# Altium footprint library MCED_PcbLib.PcbLib: 16 footprints
Each footprint in its own frame and in the unit in brackets; x right, y up, seen from the top. Pads: shape width x height; smd on the part's side, far side on the other; paste and mask are expansions set on the pad; w line width, h text height; cw(c..) or ccw(c..) is an arc to the next point about the centre after c.
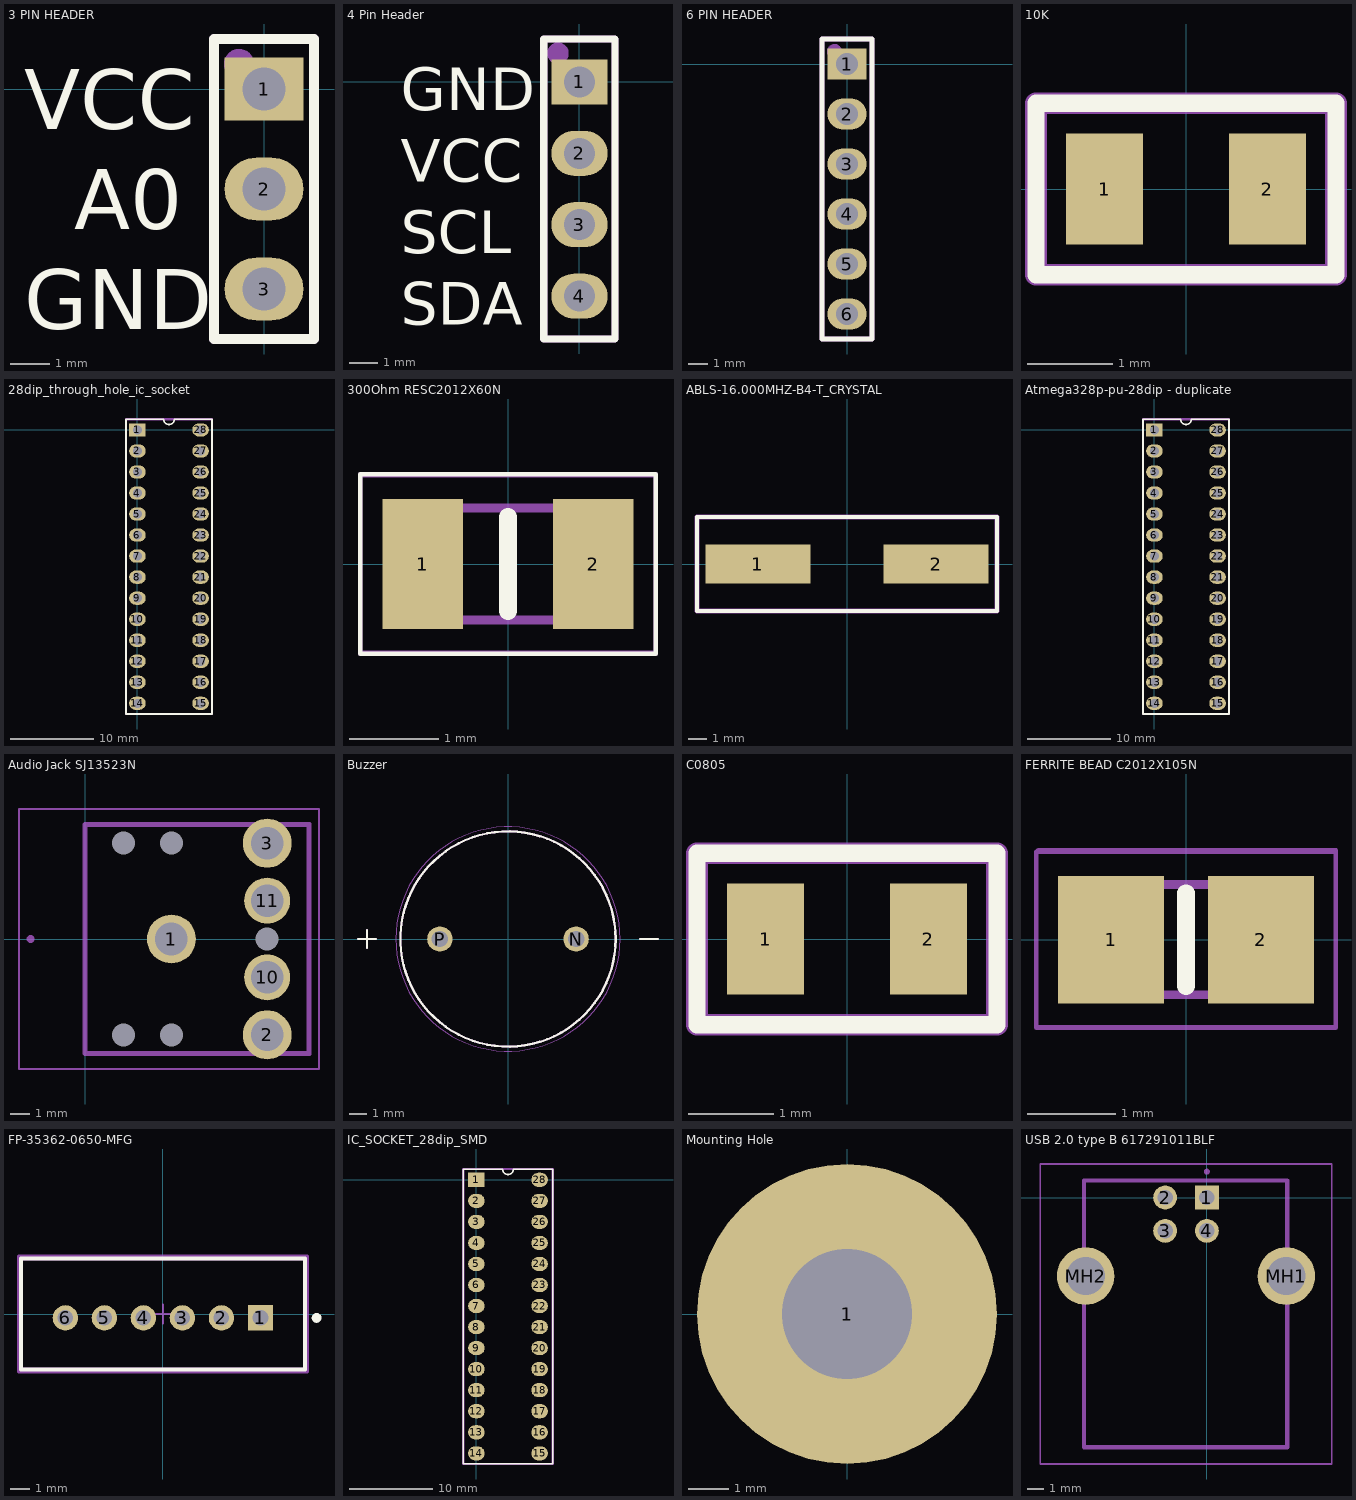
[diagram p0: the footprints below, top view; thin cyan lines are the x and y axes]

## 3 PIN HEADER [mm]
pads (3):
  rect 2x1.6 hole 1.1: 1(0,0)
  oval 2x1.6 hole 1.1: 2(0,-2.54) 3(0,-5.08)
Top Overlay:
  lines w0.254: -1.27,-6.35 1.27,-6.35 1.27,1.27 0,1.27 -1.27,1.27 -1.27,-6.35
  text "VCC" at -6.096,-1.016 h1.52
  text "A0" at -4.826,-3.556 h1.52
  text "GND" at -6.096,-6.096 h1.52
Mechanical 29:
  circle w0.508: c-0.635,0.635 r0.127
  lines w0.254: -1.27,-6.35 -1.27,1.27 1.27,1.27 1.27,-6.35 -1.27,-6.35
  text ".Designator" at 0.508,-4.826 h1.52
3D body "929850-01-03-RA.stp": height 8.26, standoff -3.18, extent -1.27,-6.35 1.27,1.27

## 4 Pin Header [mm]
pads (4):
  rect 2x1.6 hole 1.1: 1(0,0)
  oval 2x1.6 hole 1.1: 2(0,-2.54) 3(0,-5.08) 4(0,-7.62)
Top Overlay:
  lines w0.254: -1.27,-9.144 1.27,-9.144 1.27,1.524 0,1.524 -1.27,1.524 -1.27,-9.144
  text "SDA" at -6.35,-8.636 h1.52
  text "SCL" at -6.35,-6.096 h1.52
  text "VCC" at -6.35,-3.556 h1.52
  text "GND" at -6.35,-1.016 h1.52
Mechanical 29:
  circle w0.508: c-0.762,1.016 r0.127
  lines w0.254: -1.27,-9.144 1.27,-9.144 1.27,1.524 -1.27,1.524 -1.27,-9.144
  text ".Designator" at 0.508,-7.366 h1.52
3D body "m20-7820446_asm.stp": height 8.51, standoff -2.99, extent -1.25,-9.036 1.25,1.524

## 6 PIN HEADER [mm]
pads (6):
  rect 2x1.6 hole 1.1: 1(0,0)
  oval 2x1.6 hole 1.1: 2(0,-2.54) 3(0,-5.08) 4(0,-7.62) 5(0,-10.16) 6(0,-12.7)
Top Overlay:
  lines w0.254: -1.27,-13.97 -1.27,1.27 0,1.27 1.27,1.27 1.27,-13.97 -1.27,-13.97
Mechanical 29:
  circle w0.508: c-0.635,0.635 r0.127
  lines w0.254: -1.27,-13.97 1.27,-13.97 1.27,1.27 -1.27,1.27 -1.27,-13.97
  text ".Designator" at 0.508,-11.938 h1.52
3D body "929850-01-06-RB.stp": height 8.26, standoff -3.43, extent -1.27,-13.97 1.27,1.27

## 10K [mm] "Resistor"
pads (2):
  rect 0.9x1.3 smd: 1(-0.95,0) 2(0.95,0)
Top Overlay:
  lines w0.2: -1.75,-1 1.75,-1 1.75,1 -1.75,1 -1.75,0 -1.75,-1
Mechanical 29:
  lines w0.254: -1.75,-1 1.75,-1 1.75,1 -1.75,1 -1.75,-1
  text ".Designator" at -0.95,-0.1 h0.6
3D body "MCU 0805.stp": height 0.45, standoff 0, extent -1,-0.625 1,0.625

## 28dip_through_hole_ic_socket [mm]
pads (28):
  rect 2x1.6 hole 1.1: 1(0,0)
  oval 2x1.6 hole 1.1: 2(0,-2.54) 3(0,-5.08) 4(0,-7.62) 5(0,-10.16) 6(0,-12.7) 7(0,-15.24) 8(0,-17.78) 9(0,-20.32) 10(0,-22.86) 11(0,-25.4) 12(0,-27.94) 13(0,-30.48) 14(0,-33.02) 15(7.62,-33.02) 16(7.62,-30.48) 17(7.62,-27.94) 18(7.62,-25.4) 19(7.62,-22.86) 20(7.62,-20.32) 21(7.62,-17.78) 22(7.62,-15.24) 23(7.62,-12.7) 24(7.62,-10.16) 25(7.62,-7.62) 26(7.62,-5.08) 27(7.62,-2.54) 28(7.62,0)
Top Overlay:
  lines w0.2: -1.39,-34.31 -1.39,1.29 3.175,1.29 ccw(c3.81,1.29) 4.445,1.29 9.01,1.29 9.01,-34.31 -1.39,-34.31
Mechanical 29:
  circle w0.5: c0,0 r0.2
  lines w0.254: -1.39,-34.31 -1.39,1.29 9.01,1.29 9.01,-34.31 -1.39,-34.31
  text ".Designator" at 4.91,-23.51 h3
3D body "User Library-28pin 0_3inch 2_54mm IC DIP Gold Socket.step": height 5.15, standoff -2.85, extent -1.27,-34.27 8.89,1.29

## 300Ohm RESC2012X60N [mm] "330 Ohm"
pads (2):
  rect 0.9x1.45 smd: 1(-0.95,0) 2(0.95,0)
Top Overlay:
  lines w0.051: -1.65,-1 1.65,-1 1.65,1 -1.65,1 -1.65,-1
  lines w0.2: 0,-0.525 0,0.525
Mechanical 15:
  lines w0.1: -1,-0.625 1,-0.625 1,0.625 -1,0.625 -1,-0.625
Mechanical 20:
  lines w0.05: -1.65,-1 1.65,-1 1.65,1 -1.65,1 -1.65,-1
Mechanical 29:
  lines w0.051: -1.651,-0.991 -1.651,0.991 1.651,0.991 1.651,-0.991 -1.651,-0.991
  text ".Designator" at -0.559,0.178 h0.76
3D body "CRCW0805330RFKEAC.stp": height 5.8, standoff -4.65, extent -10,-3.376 10,3.376

## ABLS-16.000MHZ-B4-T_CRYSTAL [mm]
pads (2):
  rect 5.6x2.1 smd: 1(-4.75,0) 2(4.75,0)
Top Overlay:
  lines w0.2: -8,-2.5 -8,0 -8,2.5 8,2.5 8,-2.5 -8,-2.5
Mechanical 29:
  lines w0.254: -8,-2.5 8,-2.5 8,2.5 -8,2.5 -8,-2.5
  text ".Designator" at -0.246,-0.246 h3
3D body "User Library-Crystal HC49_US-SM.step": height 4.31, standoff 0.01, extent -6.4,-2.415 6.4,2.415

## Atmega328p-pu-28dip - duplicate [mm]
pads (28):
  rect 2x1.6 hole 1.1: 1(0,0)
  oval 2x1.6 hole 1.1: 2(0,-2.54) 3(0,-5.08) 4(0,-7.62) 5(0,-10.16) 6(0,-12.7) 7(0,-15.24) 8(0,-17.78) 9(0,-20.32) 10(0,-22.86) 11(0,-25.4) 12(0,-27.94) 13(0,-30.48) 14(0,-33.02) 15(7.62,-33.02) 16(7.62,-30.48) 17(7.62,-27.94) 18(7.62,-25.4) 19(7.62,-22.86) 20(7.62,-20.32) 21(7.62,-17.78) 22(7.62,-15.24) 23(7.62,-12.7) 24(7.62,-10.16) 25(7.62,-7.62) 26(7.62,-5.08) 27(7.62,-2.54) 28(7.62,0)
Top Overlay:
  lines w0.2: -1.39,-34.31 9.01,-34.31 9.01,1.29 4.445,1.29 cw(c3.81,1.29) 3.175,1.29 -1.39,1.29 -1.39,-34.31
Mechanical 29:
  circle w0.5: c0,0 r0.2
  lines w0.254: -1.39,-34.31 9.01,-34.31 9.01,1.29 -1.39,1.29 -1.39,-34.31
  text ".Designator" at 4.91,-23.51 h3
3D body "User Library-28 pin dip-1.step": height 4.65, standoff -1.57, extent -0.19,-34.48 7.684,1.46

## Audio Jack SJ13523N [mm] "audio jack"
pads (10):
  round 2.55 hole 1.7: 1(4.5,0) 2(9.5,-5) 3(9.5,5)
  round 2.4 hole 1.7: 10(9.5,-2) 11(9.5,2)
  round 0.6 hole 1.2 unplated: MH1(2,5) MH2(4.5,5) MH3(9.5,0) MH4(2,-5) MH5(4.5,-5)
Mechanical 15:
  lines w0.2: 0,-6 0,6 11.7,6 11.7,-6 0,-6
Mechanical 20:
  lines w0.1: -3.45,-6.775 -3.45,6.775 12.2,6.775 12.2,-6.775 -3.45,-6.775
Mechanical 29:
  circle w0.254: c-2.845,0 r0.08
  lines w0.254: 0,-5.969 0,0 0,5.969 11.684,5.969 11.684,-5.969 0,-5.969
  text ".Designator" at 3.277,-0.381 h1.52
3D body "SJ1-3523N.stp": height 5.8, standoff -4.65, extent -10,-3.376 10,3.376

## Buzzer [mm] "Buzzer"
pads (2):
  round 1.408 hole 0.9: N(3.8,0) P(-3.8,0)
Top Overlay:
  circle w0.127: c0,0 r6
  lines w0.127: -8.36,0 -7.36,0 ; -7.86,-0.5 -7.86,0.5 ; 7.36,0 8.36,0
Mechanical 13:
  circle w0.127: c0,0 r6
  lines w0.127: -8.36,0 -7.36,0 ; -7.86,-0.5 -7.86,0.5 ; 7.36,0 8.36,0
Mechanical 15:
  circle w0.05: c0,0 r6.25
3D body "step_temp.STEP": height 9.51, standoff -4.49, extent -5.989,-6 5.992,6

## C0805 [mm]
pads (2):
  rect 0.9x1.3 smd: 1(-0.95,0) 2(0.95,0)
Top Overlay:
  lines w0.2: -1.75,-1 1.75,-1 1.75,1 -1.75,1 -1.75,0 -1.75,-1
Mechanical 29:
  lines w0.254: -1.75,-1 1.75,-1 1.75,1 -1.75,1 -1.75,-1
  text ".Designator" at -0.95,-0.1 h0.6
3D body "User Library-CAPC2013X10.step": height 1, standoff 0, extent -1,-0.625 1,0.625

## FERRITE BEAD C2012X105N [mm] "FERRITE BEAD"
pads (2):
  rect 1.2x1.45 smd: 1(-0.85,0) 2(0.85,0)
Top Overlay:
  lines w0.2: 0,-0.525 0,0.525
Mechanical 15:
  lines w0.1: -1,-0.625 1,-0.625 1,0.625 -1,0.625 -1,-0.625
Mechanical 20:
  lines w0.05: -1.7,-1 1.7,-1 1.7,1 -1.7,1 -1.7,-1
Mechanical 29:
  lines w0.051: -1.702,-0.991 -1.702,0.991 -1.676,1.016 1.702,1.016 1.702,-0.991 -1.702,-0.991
  text ".Designator" at -0.457,0.229 h0.76
3D body "MPZ2012S601AT000.stp": height 5.8, standoff -4.65, extent -10,-3.376 10,3.376

## FP-35362-0650-MFG [mm]
pads (6):
  rect 1.3x1.3 hole 0.8 paste-1000 mask+0: 1(5,-0.2)
  round 1.3 hole 0.8 paste-1000 mask+0: 2(3,-0.2) 3(1,-0.2) 4(-1,-0.2) 5(-3,-0.2) 6(-5,-0.2)
Top Overlay:
  circle w0.25: c7.875,-0.2 r0.125
  lines w0.2: -7.275,-2.85 -7.275,2.85 7.275,2.85 7.275,-2.85 -7.275,-2.85
Top Assembly:
  lines w0.2: -7.375,-2.95 -7.375,2.95 7.375,2.95 7.375,-2.95 -7.375,-2.95
  text ".Designator" at 0,0.188 h1
Top 3D Body:
  lines w0.2: -7.275,-2.85 -7.275,2.85 7.275,2.85 7.275,-2.85 -7.275,-2.85
Top Courtyard:
  lines w0.2: -7.375,-2.95 -7.375,2.95 7.375,2.95 7.375,-2.95 -7.375,-2.95
Top Component Center:
  lines w0.1: -0.5,0 0.5,0 ; 0,-0.5 0,0.5
3D body "Conn_Molex_35362-0650_eec.STEP": height 0.25, standoff 0, extent -7.375,-2.95 7.375,2.95

## IC_SOCKET_28dip_SMD [mm]
pads (28):
  rect 2x1.7 smd: 1(0,0)
  oval 2x1.7 smd: 2(0,-2.54) 3(0,-5.08) 4(0,-7.62) 5(0,-10.16) 6(0,-12.7) 7(0,-15.24) 8(0,-17.78) 9(0,-20.32) 10(0,-22.86) 11(0,-25.4) 12(0,-27.94) 13(0,-30.48) 14(0,-33.02) 15(7.62,-33.02) 16(7.62,-30.48) 17(7.62,-27.94) 18(7.62,-25.4) 19(7.62,-22.86) 20(7.62,-20.32) 21(7.62,-17.78) 22(7.62,-15.24) 23(7.62,-12.7) 24(7.62,-10.16) 25(7.62,-7.62) 26(7.62,-5.08) 27(7.62,-2.54) 28(7.62,0)
Top Overlay:
  lines w0.2: -1.59,-34.29 -1.59,1.27 3.175,1.27 ccw(c3.81,1.27) 4.445,1.27 9.21,1.27 9.21,-34.29 -1.59,-34.29
Mechanical 29:
  circle w0.8: c0,0 r0.261
  lines w0.254: -1.59,-34.31 9.21,-34.31 9.21,1.29 -1.59,1.29 -1.59,-34.31
  text ".Designator" at 4.8,-22.9 h3
3D body "User Library-28pin 0_3inch 2_54mm IC DIP-SMD Socket Round Hole.step": height 5.51, standoff -0.08, extent -2.4,-34.27 10.02,1.29

## Mounting Hole [mm]
pads (1):
  round 7.4 hole 3.2: 1(0,0)

## USB 2.0 type B 617291011BLF [mm]
pads (6):
  rect 1.431x1.431 hole 0.92: 1(0,0)
  round 1.431 hole 0.92: 2(-2.5,0) 3(-2.5,-2) 4(0,-2)
  round 3.45 hole 2.3: MH1(4.77,-4.71) MH2(-7.27,-4.71)
Mechanical 15:
  lines w0.1: -7.35,-14.99 -7.35,1.01 4.85,1.01 4.85,-14.99 -7.35,-14.99
Mechanical 20:
  lines w0.1: -9.995,-15.99 -9.995,2.01 7.495,2.01 7.495,-15.99 -9.995,-15.99
Mechanical 29:
  circle w0.254: c0,1.549 r0.051
  lines w0.254: -7.366,-14.986 -7.366,1.016 4.826,1.016 4.826,-14.986 -7.366,-14.986
  text ".Designator" at -0.864,-6.875 h2.54
3D body "61729-1011BLF.stp": height 5.8, standoff -4.65, extent -10,-3.376 10,3.376